# EAGLE library part BLEUSBBREAKOUT-LOGICAL (library flyingcarsandstuff)
BLE112 Breakout board. Symbol organized to facilitate inclusion in schematic, by grouping all ports together.
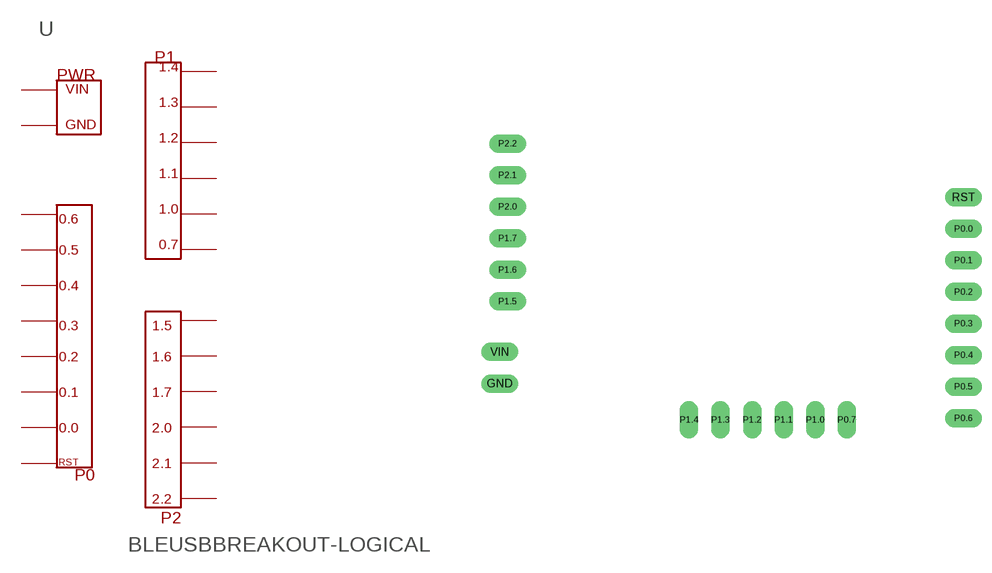
[diagram p1: symbol with the pads of BLE112USBBREAKOUTNOREST; footprint BLE112USBBREAKOUTNOREST]

Designator prefix -

## BLEUSBBREAKOUT-LOGICAL  [BLE112USBBREAKOUTNOREST]
GND  GND  pwr
P0.0  P0.0
P0.1  P0.1
P0.2  P0.2
P0.3  P0.3
P0.4  P0.4
P0.5  P0.5
P0.6  P0.6
P0.7  P0.7
P1.0  P1.0
P1.1  P1.1
P1.2  P1.2
P1.3  P1.3
P1.4  P1.4
P1.5  P1.5
P1.6  P1.6
P1.7  P1.7
P2.0  P2.0
P2.1  P2.1
P2.2  P2.2
RST  RST
VIN  VIN  pwr

## Footprint BLE112USBBREAKOUTNOREST (pad centres in mm)
drill 1 long: GND -19.685,-6.604; P0.0 17.653,5.842; P0.1 17.653,3.302; P0.2 17.653,0.762; P0.3 17.653,-1.778; P0.4 17.653,-4.318; P0.5 17.653,-6.858; P0.6 17.653,-9.398; P0.7 8.255,-9.525; P1.0 5.715,-9.525; P1.1 3.175,-9.525; P1.2 0.635,-9.525; P1.3 -1.905,-9.525; P1.4 -4.445,-9.525; P1.5 -19.05,0; P1.6 -19.05,2.54; P1.7 -19.05,5.08; P2.0 -19.05,7.62; P2.1 -19.05,10.16; P2.2 -19.05,12.7; RST 17.653,8.382; VIN -19.685,-4.064